# EAGLE library part TLC5951 (library led-stuff)
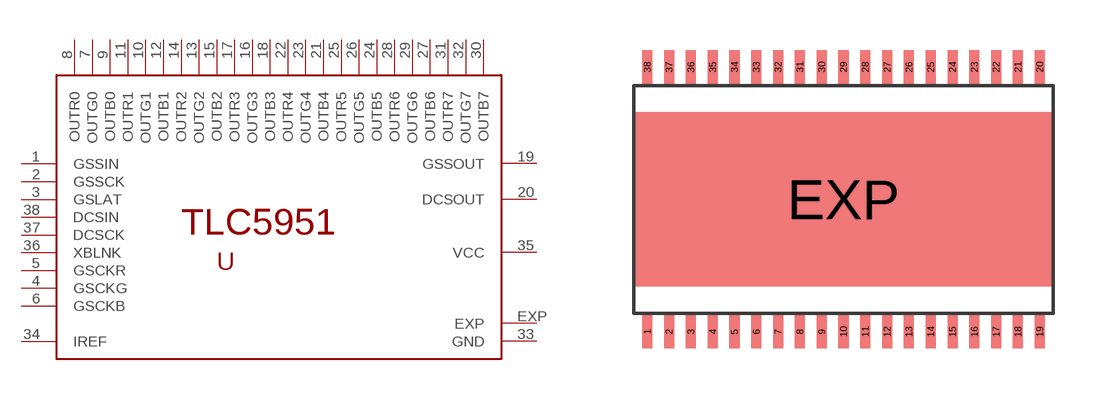
[diagram p1: symbol with the pads of HTSSOP38DAP; footprint HTSSOP38DAP]

Designator prefix -

## TLC5951  [HTSSOP38DAP]
1  GSSIN
2  GSSCK
3  GSLAT
4  GSCKG
5  GSCKR
6  GSCKB
7  OUTG0  out
8  OUTR0  out
9  OUTB0  out
10  OUTG1  out
11  OUTR1  out
12  OUTB1  out
13  OUTG2  out
14  OUTR2  out
15  OUTB2  out
16  OUTG3  out
17  OUTR3  out
18  OUTB3  out
19  GSSOUT
20  DCSOUT
21  OUTB4  out
22  OUTR4  out
23  OUTG4  out
24  OUTB5  out
25  OUTR5  out
26  OUTG5  out
27  OUTB6  out
28  OUTR6  out
29  OUTG6  out
30  OUTB7  out
31  OUTR7  out
32  OUTG7  out
33  GND  sup
34  IREF
35  VCC  sup
36  XBLNK
37  DCSCK
38  DCSIN
EXP  EXP

## Footprint HTSSOP38DAP (pad centres in mm)
PowerPAD™ PLASTIC SMALL-OUTLINE PACKAGE DAP (R-PDSO-G**) Source: http://focus.ti.com/lit/ml/mpds029b/mpds029b.pdf / slma002.pdf
smd 0.3 x 1: 1 -5.85,-3.95; 2 -5.2,-3.95; 3 -4.55,-3.95; 4 -3.9,-3.95; 5 -3.25,-3.95; 6 -2.6,-3.95; 7 -1.95,-3.95; 8 -1.3,-3.95; 9 -0.65,-3.95; 10 0,-3.95; 11 0.65,-3.95; 12 1.3,-3.95; 13 1.95,-3.95; 14 2.6,-3.95; 15 3.25,-3.95; 16 3.9,-3.95; 17 4.55,-3.95; 18 5.2,-3.95; 19 5.85,-3.95; 20 5.85,3.95; 21 5.2,3.95; 22 4.55,3.95; 23 3.9,3.95; 24 3.25,3.95; 25 2.6,3.95; 26 1.95,3.95; 27 1.3,3.95; 28 0.65,3.95; 29 0,3.95; 30 -0.65,3.95; 31 -1.3,3.95; 32 -1.95,3.95; 33 -2.6,3.95; 34 -3.25,3.95; 35 -3.9,3.95; 36 -4.55,3.95; 37 -5.2,3.95; 38 -5.85,3.95
smd 12.5 x 5.2: EXP 0,0